# Altium footprint library valk.PcbLib: 28 footprints (part 1 of 2)
Each footprint in its own frame and in the unit in brackets; x right, y up, seen from the top. Pads: shape width x height; smd on the part's side, far side on the other; paste and mask are expansions set on the pad; w line width, h text height; cw(c..) or ccw(c..) is an arc to the next point about the centre after c.
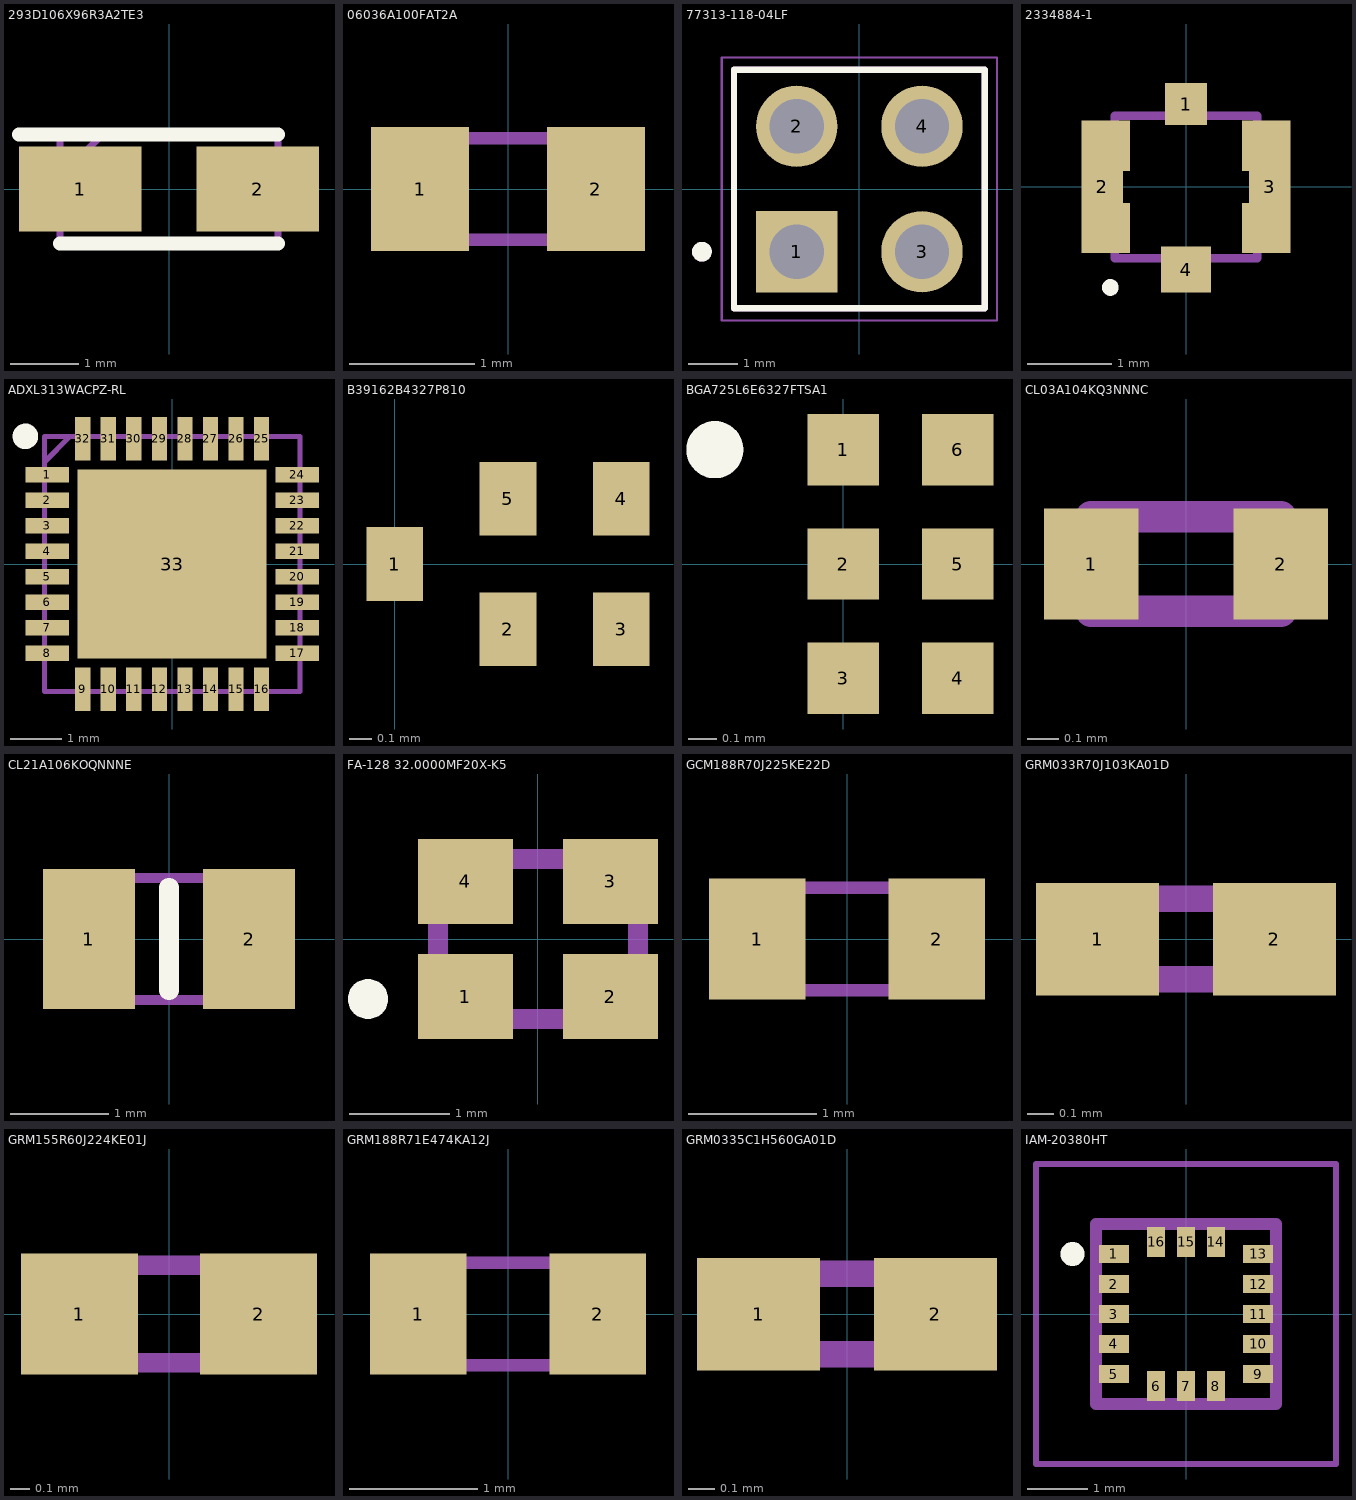
[diagram p0: the footprints below, top view; thin cyan lines are the x and y axes]

## 293D106X96R3A2TE3 [mm] "CAP TANT 10UF 10% 6.3V 1206"
pads (2):
  rect 1.8x1.25 smd: 1(-1.3,0) 2(1.3,0)
Top Overlay:
  lines w0.2: -2.2,0.8 1.6,0.8 ; -1.6,-0.8 1.6,-0.8
Mechanical 15:
  lines w0.1: -1.6,0.175 -0.975,0.8 ; -1.6,-0.8 -1.6,0.8 1.6,0.8 1.6,-0.8 -1.6,-0.8
3D body "293D106X96R3A2TE3.stp": height 1.82, standoff -0.01, extent -1.702,-0.946 1.702,0.952

## 06036A100FAT2A [mm] "10 pF ±1% 6.3V Ceramic Capacitor C0G, NP0 0603 (1608 Metric)"
pads (2):
  rect 0.78x0.99 smd: 1(-0.7,0) 2(0.7,0)
Mechanical 15:
  lines w0.1: -0.8,-0.405 -0.8,0.405 0.8,0.405 0.8,-0.405 -0.8,-0.405
3D body "06036A100FAT2A.stp": height 0.9, standoff 0, extent -0.8,-0.405 0.8,0.405

## 77313-118-04LF [mm] "Connector Header Through Hole 4 position 0.100\" (2.54mm)"
pads (4):
  rect 1.65x1.65 / inner round 1.65 / far side rect 1.65x1.65 hole 1.1: 1(-1.27,-1.27)
  round 1.65 hole 1.1: 2(-1.27,1.27) 3(1.27,-1.27) 4(1.27,1.27)
Top Overlay:
  circle w0.2: c-3.19,-1.27 r0.1
  lines w0.127: -2.54,-2.415 2.54,-2.415 2.54,2.415 -2.54,2.415 -2.54,-2.415
Mechanical 13:
  circle w0.2: c-3.19,-1.27 r0.1
  lines w0.127: -2.54,-2.415 -2.54,2.415 ; -2.54,-2.415 2.54,-2.415 ; -2.54,-2.415 -2.54,2.415 ; -2.54,2.415 2.54,2.415 ; -2.54,2.415 2.54,2.415 ; 2.54,-2.415 2.54,2.415 ; 2.54,-2.415 2.54,2.415
Mechanical 15:
  lines w0.05: -2.79,-2.665 2.79,-2.665 2.79,2.665 -2.79,2.665 -2.79,-2.665
3D body "77313-118-04LF.stp": height 8.39, standoff -3.11, extent -2.34,-2.417 2.34,2.413

## 2334884-1 [mm] "U.FL (UMCC) Connector Receptacle, Male Pin 50 Ohms Surface Mount Solder"
pads (8):
  rect 0.5x0.5 smd: 1(0,0.988)
  rect 0.5x1.58 smd: 2(-1,0) 3(1,0)
  rect 0.6x0.55 smd: 4(0,-0.988)
  rect 0.08x0.6 smd: 5(-0.71,0.49) 6(-0.71,-0.49) 7(0.71,-0.49) 8(0.71,0.49)
Top Overlay:
  lines w0.1: -0.953,-1.2 cw(c-0.903,-1.2) -0.853,-1.2 cw(c-0.903,-1.2) -0.953,-1.2
Mechanical 15:
  lines w0.1: -0.85,-0.85 0.85,-0.85 0.85,0.85 -0.85,0.85 -0.85,-0.85
3D body "2334884-1.stp": height 0.6, standoff 0, extent -1,-1 1,1

## ADXL313WACPZ-RL [mm] "Accelerometer X, Y, Z Axis ±0.5g, 1g, 2g, 4g 3.125Hz ~ 1.6kHz 32-LFCSP-LQ (5x5)"
pads (33):
  rect 0.85x0.3 smd: 1(-2.45,1.75) 2(-2.45,1.25) 3(-2.45,0.75) 4(-2.45,0.25) 5(-2.45,-0.25) 6(-2.45,-0.75) 7(-2.45,-1.25) 8(-2.45,-1.75) 17(2.45,-1.75) 18(2.45,-1.25) 19(2.45,-0.75) 20(2.45,-0.25) 21(2.45,0.25) 22(2.45,0.75) 23(2.45,1.25) 24(2.45,1.75)
  rect 0.3x0.85 smd: 9(-1.75,-2.45) 10(-1.25,-2.45) 11(-0.75,-2.45) 12(-0.25,-2.45) 13(0.25,-2.45) 14(0.75,-2.45) 15(1.25,-2.45) 16(1.75,-2.45) 25(1.75,2.45) 26(1.25,2.45) 27(0.75,2.45) 28(0.25,2.45) 29(-0.25,2.45) 30(-0.75,2.45) 31(-1.25,2.45) 32(-1.75,2.45)
  rect 3.7x3.7 smd: 33(0,0)
Top Overlay:
  circle w0.25: c-2.875,2.5 r0.125
Mechanical 15:
  lines w0.1: -2.5,2 -2,2.5 ; -2.5,-2.5 2.5,-2.5 2.5,2.5 -2.5,2.5 -2.5,-2.5
3D body "ADXL313WACPZ-RL.stp": height 1.55, standoff 0, extent -2.55,-2.55 2.55,2.55

## B39162B4327P810 [mm] "Frequency RF SAW Filter (Surface Acoustic Wave) Bandwidth 5-SMD, No Lead"
pads (5):
  rect 0.25x0.325 smd: 1(0,0) 2(0.5,-0.288) 3(1,-0.288) 4(1,0.288) 5(0.5,0.288)
3D body "B39162B4327P810--3DModel-STEP-510211.STEP": height 0.4, standoff 0, extent -0.2,-0.55 1.2,0.55

## BGA725L6E6327FTSA1 [mm] "RF Amplifier IC GPS/GNSS 1.55GHz ~ 1.615GHz TSLP-6-2"
pads (6):
  rect 0.25x0.25 smd: 1(0,0.4) 2(0,0) 3(0,-0.4) 4(0.4,-0.4) 5(0.4,0) 6(0.4,0.4)
Top Overlay:
  lines w0.1: -0.5,0.4 ccw(c-0.45,0.4) -0.4,0.4 ccw(c-0.45,0.4) -0.5,0.4
3D body "PG-TSLP-6-2_INF.step": height 0.41, standoff 0, extent -0.181,-0.572 0.581,0.572

## CL03A104KQ3NNNC [mm] "CAP CER 0.1UF 6.3V X5R 0201"
pads (2):
  rect 0.3x0.35 smd: 1(-0.3,0) 2(0.3,0)
Mechanical 15:
  lines w0.1: -0.3,-0.15 -0.3,0.15 0.3,0.15 0.3,-0.15 -0.3,-0.15
3D body "CL03A104KQ3NNNC.stp": height 0.33, standoff 0, extent -0.3,-0.15 0.3,0.15

## CL21A106KOQNNNE [mm] "10 µF ±10% 16V Ceramic Capacitor X5R 0805 (2012 Metric)"
pads (2):
  rect 0.94x1.43 smd: 1(-0.82,0) 2(0.82,0)
Top Overlay:
  lines w0.2: 0,-0.525 0,0.525
Mechanical 15:
  lines w0.1: -1,-0.625 1,-0.625 1,0.625 -1,0.625 -1,-0.625
3D body "CL21A106KOQNNNE.stp": height 1.4, standoff 0, extent -1,-0.625 1,0.625

## FA-128 32.0000MF20X-K5 [mm] "32 MHz ±10ppm Crystal 10pF 60 Ohms 4-SMD, No Lead"
pads (4):
  rect 0.95x0.85 smd: 1(-0.725,-0.575) 2(0.725,-0.575) 3(0.725,0.575) 4(-0.725,0.575)
Top Overlay:
  lines w0.2: -1.8,-0.6 ccw(c-1.7,-0.6) -1.6,-0.6 ccw(c-1.7,-0.6) -1.8,-0.6
Mechanical 15:
  lines w0.2: -1,-0.8 -1,0.8 1,0.8 1,-0.8 -1,-0.8
3D body "FA-128_32.0000MF20X-K5.stp": height 0.6, standoff 0, extent -1.115,-0.915 1.115,0.915

## GCM188R70J225KE22D [mm] "2.2 µF ±10% 6.3V Ceramic Capacitor X7R 0603 (1608 Metric)"
pads (2):
  rect 0.75x0.94 smd: 1(-0.7,0) 2(0.7,0)
Mechanical 15:
  lines w0.1: -0.8,-0.4 -0.8,0.4 0.8,0.4 0.8,-0.4 -0.8,-0.4
3D body "GCM188R70J225KE22D.stp": height 0.9, standoff 0, extent -0.8,-0.4 0.8,0.4

## GRM033R70J103KA01D [mm] "10000 pF ±10% 6.3V Ceramic Capacitor X7R 0201 (0603 Metric)"
pads (2):
  rect 0.46x0.42 smd: 1(-0.33,0) 2(0.33,0)
Mechanical 15:
  lines w0.1: -0.3,-0.15 0.3,-0.15 0.3,0.15 -0.3,0.15 -0.3,-0.15
3D body "GRM033R70J103KA01D.stp": height 0.33, standoff 0, extent -0.3,-0.15 0.3,0.15

## GRM155R60J224KE01J [mm] "0.22 µF ±10% 6.3V Ceramic Capacitor X5R 0402 (1005 Metric)"
pads (2):
  rect 0.6x0.62 smd: 1(-0.46,0) 2(0.46,0)
Mechanical 15:
  lines w0.1: -0.5,-0.25 -0.5,0.25 0.5,0.25 0.5,-0.25 -0.5,-0.25
3D body "GRM155R60J224KE01J.stp": height 0.55, standoff 0, extent -0.5,-0.25 0.5,0.25

## GRM188R71E474KA12J [mm] "0.47 µF ±10% 25V Ceramic Capacitor X7R 0603 (1608 Metric)"
pads (2):
  rect 0.75x0.94 smd: 1(-0.7,0) 2(0.7,0)
Mechanical 15:
  lines w0.1: -0.8,-0.4 0.8,-0.4 0.8,0.4 -0.8,0.4 -0.8,-0.4
3D body "GRM188R71E474KA12J.stp": height 0.9, standoff 0, extent -0.8,-0.4 0.8,0.4

## GRM0335C1H560GA01D [mm] "56 pF ±2% 50V Ceramic Capacitor C0G, NP0 0201 (0603 Metric)"
pads (2):
  rect 0.46x0.42 smd: 1(-0.33,0) 2(0.33,0)
Mechanical 15:
  lines w0.1: -0.3,-0.15 0.3,-0.15 0.3,0.15 -0.3,0.15 -0.3,-0.15
3D body "GRM0335C1H560GA01D.stp": height 0.33, standoff 0, extent -0.3,-0.15 0.3,0.15

## IAM-20380HT [mm] "Gyroscope X (Pitch), Y (Roll), Z (Yaw) ±250, 500, 1000, 2000 5Hz ~ 250Hz I²C, SPI 16-LGA (3x3)"
pads (16):
  rect 0.5x0.3 smd: 1(-1.2,1) 2(-1.2,0.5) 3(-1.2,0) 4(-1.2,-0.5) 5(-1.2,-1) 9(1.2,-1) 10(1.2,-0.5) 11(1.2,0) 12(1.2,0.5) 13(1.2,1)
  rect 0.3x0.5 smd: 6(-0.5,-1.2) 7(0,-1.2) 8(0.5,-1.2) 14(0.5,1.2) 15(0,1.2) 16(-0.5,1.2)
Top Overlay:
  lines w0.2: -1.891,0.9 cw(c-1.891,1) -1.891,1.1 cw(c-1.891,1) -1.891,0.9
Mechanical 13:
  lines w0.2: -1.5,-1.5 1.5,-1.5 1.5,1.5 -1.5,1.5 -1.5,-1.5
Mechanical 15:
  lines w0.1: -2.5,-2.5 2.5,-2.5 2.5,2.5 -2.5,2.5 -2.5,-2.5
3D body "IAM-20380.stp": height 0.71, standoff -0.03, extent -1.5,-1.5 1.5,1.5